# Altium footprint library SamacSys.PcbLib: 18 footprints (part 1 of 2)
Each footprint in its own frame and in the unit in brackets; x right, y up, seen from the top. Pads: shape width x height; smd on the part's side, far side on the other; paste and mask are expansions set on the pad; w line width, h text height; cw(c..) or ccw(c..) is an arc to the next point about the centre after c.
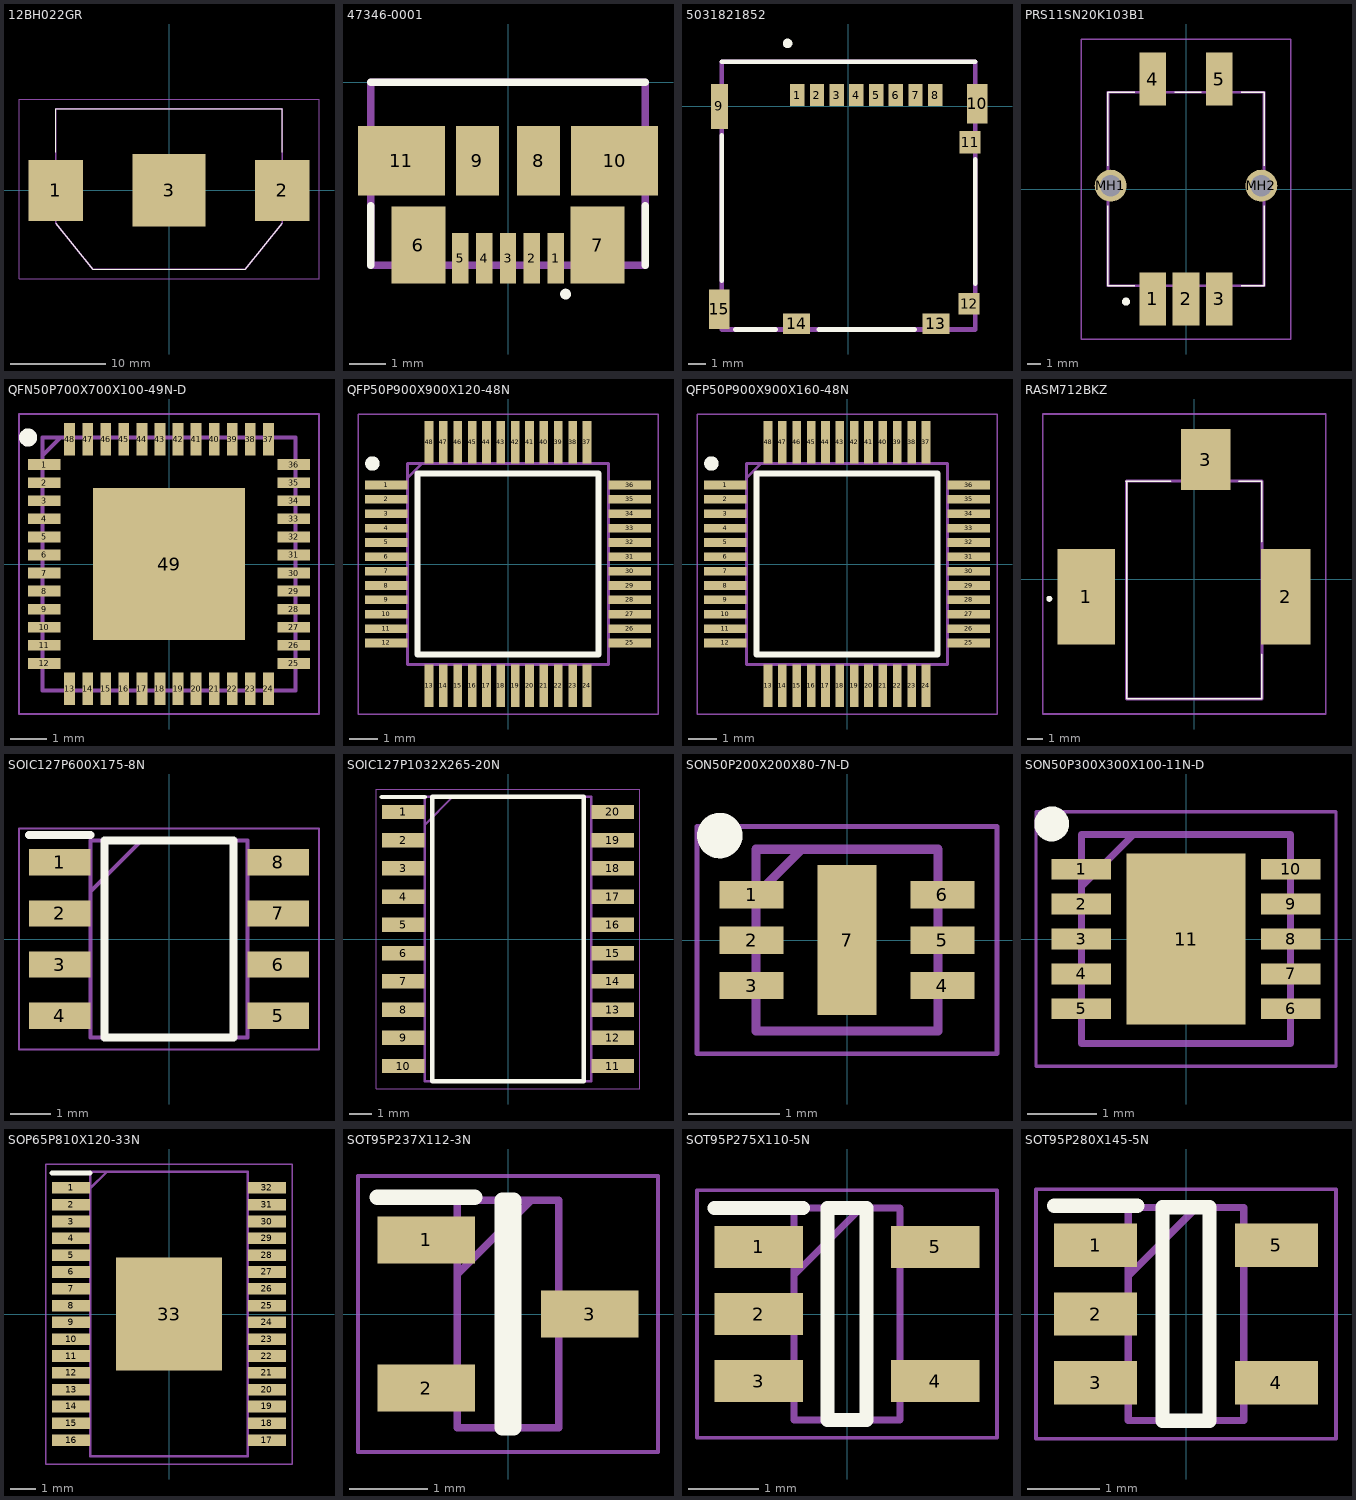
[diagram p0: the footprints below, top view; thin cyan lines are the x and y axes]

## 12BH022GR [mm]
pads (3):
  rect 5.7x6.35 smd: 1(-11.85,0) 2(11.85,0)
  rect 7.6x7.6 smd: 3(0,0)
Top Overlay:
  lines w0.1: -11.85,-3.45 -8,-8.25 8,-8.25 11.85,-3.45 ; -11.85,4 -11.85,8.55 11.85,8.55 11.85,4
Mechanical 13:
  lines w0.2: -11.85,-3.45 -8,-8.25 8,-8.25 11.85,-3.45 11.85,8.55 -11.85,8.55 -11.85,-3.45
Mechanical 15:
  lines w0.1: -15.7,-9.25 15.7,-9.25 15.7,9.55 -15.7,9.55 -15.7,-9.25
3D body "12BH022-GR.stp": height 4.1, standoff 0, extent -14.13,-8.25 14.13,8.55

## 47346-0001 [mm]
pads (11):
  rect 0.45x1.38 smd: 1(1.3,-4.81) 2(0.65,-4.81) 3(0,-4.81) 4(-0.65,-4.81) 5(-1.3,-4.81)
  rect 1.475x2.1 smd: 6(-2.452,-4.45) 7(2.452,-4.45)
  rect 1.175x1.9 smd: 8(0.837,-2.15) 9(-0.837,-2.15)
  rect 2.375x1.9 smd: 10(2.913,-2.15) 11(-2.913,-2.15)
Top Overlay:
  circle w0.2: c1.572,-5.79 r0.046
  lines w0.2: -3.75,-5 -3.75,-3.373 ; -3.75,0 3.75,0 ; 3.75,-5 3.75,-3.373
Mechanical 13:
  lines w0.2: -3.75,-5 -3.75,0 3.75,0 3.75,-5 -3.75,-5
3D body "47346-0001.stp": height 2.66, standoff -0.05, extent -3.9,-5 3.9,0

## 5031821852 [mm]
pads (15):
  rect 0.8x1.24 smd: 1(-2.85,0.63) 2(-1.75,0.63) 3(-0.65,0.63) 4(0.45,0.63) 5(1.55,0.63) 6(2.65,0.63) 7(3.75,0.63) 8(4.85,0.63)
  rect 0.95x2.5 smd: 9(-7.195,0)
  rect 1.15x2.2 smd: 10(7.195,0.15) 15(-7.195,-11.33)
  rect 1.16x1.25 smd: 11(6.795,-2)
  rect 1.16x1.2 smd: 12(6.74,-11)
  rect 1.5x1.15 smd: 13(4.89,-12.125) 14(-2.89,-12.125)
Top Overlay:
  circle w0.254: c-3.388,3.517 r0.14
  lines w0.254: -7.07,-9.733 -7.07,-1.618 ; -7.07,2.5 7.07,2.5 ; -6.3,-12.45 -4.055,-12.45 ; -1.654,-12.45 3.704,-12.45 ; 7.07,-9.889 7.07,-2.952
Mechanical 13:
  lines w0.254: -7.07,-12.45 7.07,-12.45 7.07,2.5 -7.07,2.5 -7.07,-12.45
3D body "503182-1852.stp": height 1.48, standoff 0.03, extent -7.47,-12.5 7.47,2.45

## PRS11SN20K103B1 [mm]
pads (7):
  rect 2x4 smd: 1(-2.5,-8.25) 2(0,-8.25) 3(2.5,-8.25) 4(-2.5,8.25) 5(2.5,8.25)
  round 2.4 hole 1.6: MH1(-5.65,0.25) MH2(5.65,0.25)
Top Overlay:
  lines w0.1: -5.85,-1.25 -5.85,-7.25 -3.85,-7.25 ; -5.85,1.75 -5.85,7.25 -3.85,7.25 ; -0.85,7.25 1.15,7.25 ; 4.15,-7.25 5.85,-7.25 5.85,-1.25 ; 4.15,7.25 5.65,7.25 5.85,7.25 5.85,1.75
  lines w0.5: -4.5,-8.5 cw(c-4.5,-8.45) -4.5,-8.4 cw(c-4.5,-8.45) -4.5,-8.5
Mechanical 13:
  lines w0.2: -5.85,-7.25 -5.85,7.25 5.85,7.25 5.85,-7.25 -5.85,-7.25
Mechanical 15:
  lines w0.1: -7.85,-11.25 -7.85,11.25 7.85,11.25 7.85,-11.25 -7.85,-11.25
3D body "PRS11S-N20K-103B1.stp": height 20.6, standoff -5, extent -6.344,-10.05 6.35,10.05

## QFN50P700X700X100-49N-D [mm]
pads (49):
  rect 0.9x0.3 smd: 1(-3.45,2.75) 2(-3.45,2.25) 3(-3.45,1.75) 4(-3.45,1.25) 5(-3.45,0.75) 6(-3.45,0.25) 7(-3.45,-0.25) 8(-3.45,-0.75) 9(-3.45,-1.25) 10(-3.45,-1.75) 11(-3.45,-2.25) 12(-3.45,-2.75) 25(3.45,-2.75) 26(3.45,-2.25) 27(3.45,-1.75) 28(3.45,-1.25) 29(3.45,-0.75) 30(3.45,-0.25) 31(3.45,0.25) 32(3.45,0.75) 33(3.45,1.25) 34(3.45,1.75) 35(3.45,2.25) 36(3.45,2.75)
  rect 0.3x0.9 smd: 13(-2.75,-3.45) 14(-2.25,-3.45) 15(-1.75,-3.45) 16(-1.25,-3.45) 17(-0.75,-3.45) 18(-0.25,-3.45) 19(0.25,-3.45) 20(0.75,-3.45) 21(1.25,-3.45) 22(1.75,-3.45) 23(2.25,-3.45) 24(2.75,-3.45) 37(2.75,3.45) 38(2.25,3.45) 39(1.75,3.45) 40(1.25,3.45) 41(0.75,3.45) 42(0.25,3.45) 43(-0.25,3.45) 44(-0.75,3.45) 45(-1.25,3.45) 46(-1.75,3.45) 47(-2.25,3.45) 48(-2.75,3.45)
  rect 4.2x4.2 smd: 49(0,0)
Top Overlay:
  circle w0.25: c-3.9,3.5 r0.125
Mechanical 13:
  lines w0.1: -3.5,3 -3,3.5 ; -3.5,-3.5 -3.5,3.5 3.5,3.5 3.5,-3.5 -3.5,-3.5
Mechanical 15:
  lines w0.05: -4.15,-4.15 -4.15,4.15 4.15,4.15 4.15,-4.15 -4.15,-4.15
3D body "MSP430FR5969IRGZR.stp": height 1, standoff 0, extent -3.55,-3.55 3.55,3.55

## QFP50P900X900X120-48N [mm]
pads (48):
  rect 1.475x0.3 smd: 1(-4.238,2.75) 2(-4.238,2.25) 3(-4.238,1.75) 4(-4.238,1.25) 5(-4.238,0.75) 6(-4.238,0.25) 7(-4.238,-0.25) 8(-4.238,-0.75) 9(-4.238,-1.25) 10(-4.238,-1.75) 11(-4.238,-2.25) 12(-4.238,-2.75) 25(4.238,-2.75) 26(4.238,-2.25) 27(4.238,-1.75) 28(4.238,-1.25) 29(4.238,-0.75) 30(4.238,-0.25) 31(4.238,0.25) 32(4.238,0.75) 33(4.238,1.25) 34(4.238,1.75) 35(4.238,2.25) 36(4.238,2.75)
  rect 0.3x1.475 smd: 13(-2.75,-4.238) 14(-2.25,-4.238) 15(-1.75,-4.238) 16(-1.25,-4.238) 17(-0.75,-4.238) 18(-0.25,-4.238) 19(0.25,-4.238) 20(0.75,-4.238) 21(1.25,-4.238) 22(1.75,-4.238) 23(2.25,-4.238) 24(2.75,-4.238) 37(2.75,4.238) 38(2.25,4.238) 39(1.75,4.238) 40(1.25,4.238) 41(0.75,4.238) 42(0.25,4.238) 43(-0.25,4.238) 44(-0.75,4.238) 45(-1.25,4.238) 46(-1.75,4.238) 47(-2.25,4.238) 48(-2.75,4.238)
Top Overlay:
  circle w0.25: c-4.725,3.5 r0.125
  lines w0.2: -3.15,-3.15 -3.15,3.15 3.15,3.15 3.15,-3.15 -3.15,-3.15
Mechanical 13:
  lines w0.1: -3.5,3 -3,3.5 ; -3.5,-3.5 -3.5,3.5 3.5,3.5 3.5,-3.5 -3.5,-3.5
Mechanical 15:
  lines w0.05: -5.225,-5.225 -5.225,5.225 5.225,5.225 5.225,-5.225 -5.225,-5.225
3D body "ATMEGA1609-AFR.stp": height 1.2, standoff 0, extent -4.5,-4.5 4.5,4.5

## QFP50P900X900X160-48N [mm]
pads (48):
  rect 1.475x0.3 smd: 1(-4.238,2.75) 2(-4.238,2.25) 3(-4.238,1.75) 4(-4.238,1.25) 5(-4.238,0.75) 6(-4.238,0.25) 7(-4.238,-0.25) 8(-4.238,-0.75) 9(-4.238,-1.25) 10(-4.238,-1.75) 11(-4.238,-2.25) 12(-4.238,-2.75) 25(4.238,-2.75) 26(4.238,-2.25) 27(4.238,-1.75) 28(4.238,-1.25) 29(4.238,-0.75) 30(4.238,-0.25) 31(4.238,0.25) 32(4.238,0.75) 33(4.238,1.25) 34(4.238,1.75) 35(4.238,2.25) 36(4.238,2.75)
  rect 0.3x1.475 smd: 13(-2.75,-4.238) 14(-2.25,-4.238) 15(-1.75,-4.238) 16(-1.25,-4.238) 17(-0.75,-4.238) 18(-0.25,-4.238) 19(0.25,-4.238) 20(0.75,-4.238) 21(1.25,-4.238) 22(1.75,-4.238) 23(2.25,-4.238) 24(2.75,-4.238) 37(2.75,4.238) 38(2.25,4.238) 39(1.75,4.238) 40(1.25,4.238) 41(0.75,4.238) 42(0.25,4.238) 43(-0.25,4.238) 44(-0.75,4.238) 45(-1.25,4.238) 46(-1.75,4.238) 47(-2.25,4.238) 48(-2.75,4.238)
Top Overlay:
  circle w0.25: c-4.725,3.5 r0.125
  lines w0.2: -3.15,-3.15 -3.15,3.15 3.15,3.15 3.15,-3.15 -3.15,-3.15
Mechanical 13:
  lines w0.1: -3.5,3 -3,3.5 ; -3.5,-3.5 -3.5,3.5 3.5,3.5 3.5,-3.5 -3.5,-3.5
Mechanical 15:
  lines w0.05: -5.225,-5.225 -5.225,5.225 5.225,5.225 5.225,-5.225 -5.225,-5.225
3D body "M4FR5969SPHPT-MLS.stp": height 1.6, standoff 0, extent -4.5,-4.5 4.5,4.5

## RASM712BKZ [mm]
pads (3):
  rect 3.81x6.35 smd: 1(-7.19,-1.17)
  rect 3.3x6.35 smd: 2(6.1,-1.17)
  rect 3.3x4.06 smd: 3(0.76,7.97)
Top Overlay:
  lines w0.1: -1.545,6.53 -4.545,6.53 -4.5,6.5 -4.5,-7.97 4.5,-7.97 4.5,-5 ; 2.955,6.53 4.5,6.53 4.5,2.5
  lines w0.2: -9.745,-1.3 ccw(c-9.645,-1.3) -9.545,-1.3 ccw(c-9.645,-1.3) -9.745,-1.3
Mechanical 13:
  lines w0.2: -4.5,-7.97 -4.5,6.53 4.5,6.53 4.5,-7.97 -4.5,-7.97
Mechanical 15:
  lines w0.1: -10.095,-8.97 -10.095,11 8.75,11 8.75,-8.97 -10.095,-8.97

## SOIC127P600X175-8N [mm]
pads (8):
  rect 1.525x0.65 smd: 1(-2.712,1.905) 2(-2.712,0.635) 3(-2.712,-0.635) 4(-2.712,-1.905) 5(2.712,-1.905) 6(2.712,-0.635) 7(2.712,0.635) 8(2.712,1.905)
Top Overlay:
  lines w0.2: -3.475,2.58 -1.95,2.58 ; -1.6,-2.45 1.6,-2.45 1.6,2.45 -1.6,2.45 -1.6,-2.45
Mechanical 13:
  lines w0.1: -1.95,1.18 -0.68,2.45 ; -1.95,-2.45 1.95,-2.45 1.95,2.45 -1.95,2.45 -1.95,-2.45
Mechanical 15:
  lines w0.05: -3.725,-2.75 3.725,-2.75 3.725,2.75 -3.725,2.75 -3.725,-2.75
3D body "NE555DR.stp": height 1.75, standoff 0, extent -3,-2.45 3,2.45

## SOIC127P1032X265-20N [mm]
pads (20):
  rect 1.925x0.65 smd: 1(-4.712,5.715) 2(-4.712,4.445) 3(-4.712,3.175) 4(-4.712,1.905) 5(-4.712,0.635) 6(-4.712,-0.635) 7(-4.712,-1.905) 8(-4.712,-3.175) 9(-4.712,-4.445) 10(-4.712,-5.715) 11(4.712,-5.715) 12(4.712,-4.445) 13(4.712,-3.175) 14(4.712,-1.905) 15(4.712,-0.635) 16(4.712,0.635) 17(4.712,1.905) 18(4.712,3.175) 19(4.712,4.445) 20(4.712,5.715)
Top Overlay:
  lines w0.2: -5.675,6.39 -3.75,6.39 ; -3.4,-6.4 -3.4,6.4 3.4,6.4 3.4,-6.4 -3.4,-6.4
Mechanical 13:
  lines w0.1: -3.75,5.13 -2.48,6.4 ; -3.75,-6.4 -3.75,6.4 3.75,6.4 3.75,-6.4 -3.75,-6.4
Mechanical 15:
  lines w0.05: -5.925,-6.75 -5.925,6.75 5.925,6.75 5.925,-6.75 -5.925,-6.75
3D body "DS3234S#.stp": height 2.65, standoff 0, extent -5.162,-6.4 5.162,6.4

## SON50P200X200X80-7N-D [mm]
pads (7):
  rect 0.7x0.3 smd: 1(-1.05,0.5) 2(-1.05,0) 3(-1.05,-0.5) 4(1.05,-0.5) 5(1.05,0) 6(1.05,0.5)
  rect 0.65x1.65 smd: 7(0,0)
Top Overlay:
  circle w0.25: c-1.4,1.15 r0.125
Mechanical 13:
  lines w0.1: -1,0.5 -0.5,1 ; -1,-1 -1,1 1,1 1,-1 -1,-1
Mechanical 15:
  lines w0.05: -1.65,-1.25 -1.65,1.25 1.65,1.25 1.65,-1.25 -1.65,-1.25
3D body "MCP73830LT-0AAI_MYY.stp": height 0.8, standoff 0, extent -1.05,-1 1.05,1

## SON50P300X300X100-11N-D [mm]
pads (11):
  rect 0.85x0.3 smd: 1(-1.5,1) 2(-1.5,0.5) 3(-1.5,0) 4(-1.5,-0.5) 5(-1.5,-1) 6(1.5,-1) 7(1.5,-0.5) 8(1.5,0) 9(1.5,0.5) 10(1.5,1)
  rect 1.7x2.45 smd: 11(0,0)
Top Overlay:
  circle w0.25: c-1.925,1.65 r0.125
Mechanical 13:
  lines w0.1: -1.5,0.75 -0.75,1.5 ; -1.5,-1.5 -1.5,1.5 1.5,1.5 1.5,-1.5 -1.5,-1.5
Mechanical 15:
  lines w0.05: -2.15,-1.825 -2.15,1.825 2.15,1.825 2.15,-1.825 -2.15,-1.825
3D body "MCP73833T-AMI_MF.stp": height 1, standoff 0, extent -1.55,-1.5 1.55,1.5

## SOP65P810X120-33N [mm]
pads (33):
  rect 1.475x0.45 smd: 1(-3.788,4.875) 2(-3.788,4.225) 3(-3.788,3.575) 4(-3.788,2.925) 5(-3.788,2.275) 6(-3.788,1.625) 7(-3.788,0.975) 8(-3.788,0.325) 9(-3.788,-0.325) 10(-3.788,-0.975) 11(-3.788,-1.625) 12(-3.788,-2.275) 13(-3.788,-2.925) 14(-3.788,-3.575) 15(-3.788,-4.225) 16(-3.788,-4.875) 17(3.788,-4.875) 18(3.788,-4.225) 19(3.788,-3.575) 20(3.788,-2.925) 21(3.788,-2.275) 22(3.788,-1.625) 23(3.788,-0.975) 24(3.788,-0.325) 25(3.788,0.325) 26(3.788,0.975) 27(3.788,1.625) 28(3.788,2.275) 29(3.788,2.925) 30(3.788,3.575) 31(3.788,4.225) 32(3.788,4.875)
  rect 4.11x4.36 smd: 33(0,0)
Top Overlay:
  lines w0.2: -4.525,5.45 -3.05,5.45
Mechanical 13:
  lines w0.1: -3.05,4.85 -2.4,5.5 ; -3.05,-5.5 -3.05,5.5 3.05,5.5 3.05,-5.5 -3.05,-5.5
Mechanical 15:
  lines w0.05: -4.775,-5.8 -4.775,5.8 4.775,5.8 4.775,-5.8 -4.775,-5.8
3D body "TLC5947DAPR.stp": height 1.2, standoff 0, extent -4.05,-5.5 4.05,5.5

## SOT95P237X112-3N [mm]
pads (3):
  rect 1.25x0.6 smd: 1(-1.05,0.95) 2(-1.05,-0.95) 3(1.05,0)
Top Overlay:
  lines w0.2: -1.675,1.5 -0.425,1.5 ; -0.075,-1.46 -0.075,1.46 0.075,1.46 0.075,-1.46 -0.075,-1.46
Mechanical 13:
  lines w0.1: -0.65,0.51 0.3,1.46 ; -0.65,-1.46 -0.65,1.46 0.65,1.46 0.65,-1.46 -0.65,-1.46
Mechanical 15:
  lines w0.05: -1.925,-1.77 -1.925,1.77 1.925,1.77 1.925,-1.77 -1.925,-1.77
3D body "REF3330AIDBZR.stp": height 1.12, standoff 0, extent -1.185,-1.46 1.185,1.46

## SOT95P275X110-5N [mm]
pads (5):
  rect 1.25x0.6 smd: 1(-1.25,0.95) 2(-1.25,0) 3(-1.25,-0.95) 4(1.25,-0.95) 5(1.25,0.95)
Top Overlay:
  lines w0.2: -1.875,1.5 -0.625,1.5 ; -0.275,-1.5 -0.275,1.5 0.275,1.5 0.275,-1.5 -0.275,-1.5
Mechanical 13:
  lines w0.1: -0.75,0.55 0.2,1.5 ; -0.75,-1.5 -0.75,1.5 0.75,1.5 0.75,-1.5 -0.75,-1.5
Mechanical 15:
  lines w0.05: -2.125,-1.75 -2.125,1.75 2.125,1.75 2.125,-1.75 -2.125,-1.75
3D body "NCP302LSN20T1G.stp": height 1.1, standoff 0, extent -1.375,-1.5 1.375,1.5

## SOT95P280X145-5N [mm]
pads (5):
  rect 1.15x0.6 smd: 1(-1.25,0.95) 2(-1.25,0) 3(-1.25,-0.95) 4(1.25,-0.95) 5(1.25,0.95)
Top Overlay:
  lines w0.2: -1.825,1.5 -0.675,1.5 ; -0.325,-1.475 -0.325,1.475 0.325,1.475 0.325,-1.475 -0.325,-1.475
Mechanical 13:
  lines w0.1: -0.8,0.525 0.15,1.475 ; -0.8,-1.475 -0.8,1.475 0.8,1.475 0.8,-1.475 -0.8,-1.475
Mechanical 15:
  lines w0.05: -2.075,-1.725 -2.075,1.725 2.075,1.725 2.075,-1.725 -2.075,-1.725
3D body "LDCL015M33R.stp": height 1.45, standoff 0, extent -1.4,-1.475 1.4,1.475